# EAGLE library part RUPI-8744 (library micro-intel)
MICROCOMPUTER/PERIPHERAL DEVICE
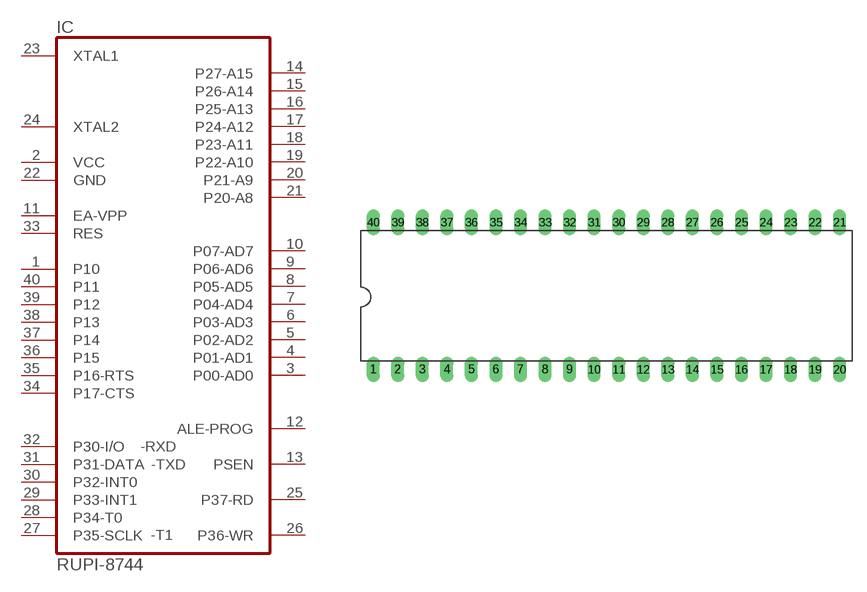
[diagram p24: symbol with the pads of DIL40; footprint DIL40]

Designator prefix IC

## RUPI-8744 (OC_FARNELL: unknown; OC_NEWARK: unknown)  [DIL40]
1  P10
2  VCC  pwr
3  P00-AD0
4  P01-AD1
5  P02-AD2
6  P03-AD3
7  P04-AD4
8  P05-AD5
9  P06-AD6
10  P07-AD7
11  EA-VPP  in
12  ALE-PROG  out
13  PSEN  out
14  P27-A15
15  P26-A14
16  P25-A13
17  P24-A12
18  P23-A11
19  P22-A10
20  P21-A9
21  P20-A8
22  GND  pwr
23  XTAL1  in
24  XTAL2  in
25  P37-RD
26  P36-WR
27  P35-SCLK
28  P34-T0
29  P33-INT1
30  P32-INT0
31  P31-DATA
32  P30-I/O
33  RES  in
34  P17-CTS
35  P16-RTS
36  P15
37  P14
38  P13
39  P12
40  P11

## Footprint DIL40 (pad centres in mm)
Dual In Line Package
drill 0.813 long: 1 -24.13,-7.62; 2 -21.59,-7.62; 3 -19.05,-7.62; 4 -16.51,-7.62; 5 -13.97,-7.62; 6 -11.43,-7.62; 7 -8.89,-7.62; 8 -6.35,-7.62; 9 -3.81,-7.62; 10 -1.27,-7.62; 11 1.27,-7.62; 12 3.81,-7.62; 13 6.35,-7.62; 14 8.89,-7.62; 15 11.43,-7.62; 16 13.97,-7.62; 17 16.51,-7.62; 18 19.05,-7.62; 19 21.59,-7.62; 20 24.13,-7.62; 21 24.13,7.62; 22 21.59,7.62; 23 19.05,7.62; 24 16.51,7.62; 25 13.97,7.62; 26 11.43,7.62; 27 8.89,7.62; 28 6.35,7.62; 29 3.81,7.62; 30 1.27,7.62; 31 -1.27,7.62; 32 -3.81,7.62; 33 -6.35,7.62; 34 -8.89,7.62; 35 -11.43,7.62; 36 -13.97,7.62; 37 -16.51,7.62; 38 -19.05,7.62; 39 -21.59,7.62; 40 -24.13,7.62